# Altium footprint library mrsl.PcbLib: 218 footprints (part 12 of 14)
Each footprint in its own frame and in the unit in brackets; x right, y up, seen from the top. Pads: shape width x height; smd on the part's side, far side on the other; paste and mask are expansions set on the pad; w line width, h text height; cw(c..) or ccw(c..) is an arc to the next point about the centre after c.
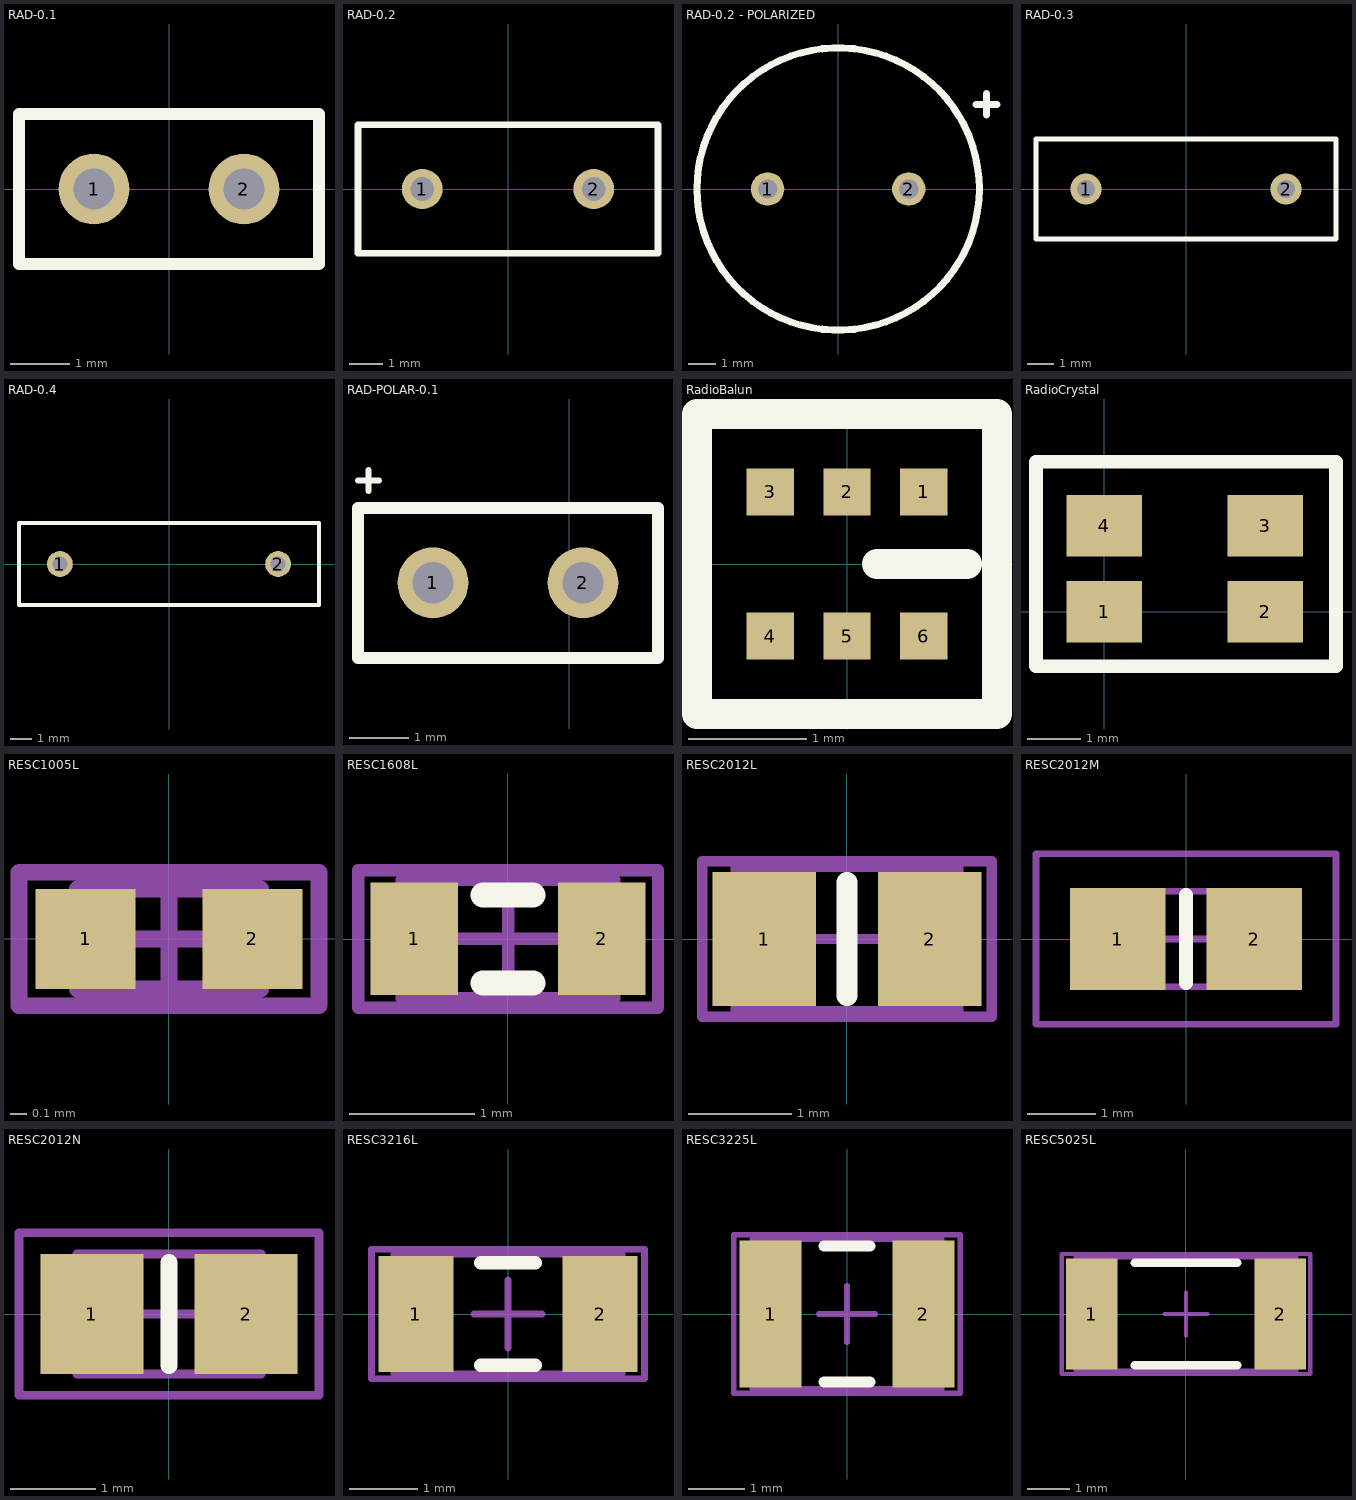
[diagram p11: the footprints below, top view; thin cyan lines are the x and y axes]

## RAD-0.1 [mm] "Radial Cap, Thru-Hole; 2 Leads; 0.1 in Pin Spacing"
pads (2):
  round 1.2 hole 0.7: 1(-1.27,0) 2(1.27,0)
Top Overlay:
  lines w0.2: -2.54,-1.27 2.54,-1.27 2.54,1.27 -2.54,1.27 -2.54,-1.27

## RAD-0.2 [mm] "Radial Cap, Thru-Hole; 2 Leads; 0.2 in Pin Spacing"
pads (2):
  round 1.2 hole 0.7: 1(-2.54,0) 2(2.54,0)
Top Overlay:
  lines w0.2: -4.445,-1.905 4.445,-1.905 4.445,1.905 -4.445,1.905 -4.445,-1.905

## RAD-0.2 - POLARIZED [mm] "Polarized Radial Cap, Thru-Hole; 2 Leads; 0.2 in Pin Spacing."
pads (2):
  round 1.2 hole 0.7: 1(-2.54,0) 2(2.54,0)
Top Overlay:
  circle w0.254: c0,0 r5.08
  lines w0.254: 4.953,3.048 5.715,3.048 ; 5.334,2.667 5.334,3.429
3D body: height 13.46, standoff 0, extent -5.073,-5.078 5.08,5.078

## RAD-0.3 [mm] "Radial Cap, Thru-Hole; 2 Leads; 0.3 in Pin Spacing"
height 6
pads (2):
  round 1.2 hole 0.7: 1(-3.81,0) 2(3.81,0)
Top Overlay:
  lines w0.2: -5.715,-1.905 5.715,-1.905 5.715,1.905 -5.715,1.905 -5.715,-1.905

## RAD-0.4 [mm] "Radial Cap, Thru-Hole; 2 Leads; 0.4 in Pin Spacing"
pads (2):
  round 1.2 hole 0.7: 1(-5.08,0) 2(5.08,0)
Top Overlay:
  lines w0.2: -6.985,-1.905 6.985,-1.905 6.985,1.905 -6.985,1.905 -6.985,-1.905

## RAD-POLAR-0.1 [mm] "Radial capacitor with leads 2.54 mm apart. Polarized"
pads (2):
  round 1.2 hole 0.7: 1(-2.311,3.708) 2(0.229,3.708)
Top Overlay:
  lines w0.1: -3.581,5.439 -3.226,5.439 ; -3.404,5.261 -3.404,5.617
  lines w0.2: -3.581,2.438 -3.581,4.978 1.499,4.978 1.499,2.438 -3.581,2.438

## RadioBalun [mm] "Radio Balun footprint"
pads (6):
  rect 0.4x0.4 smd: 1(0.65,0.61) 2(0,0.61) 3(-0.65,0.61) 4(-0.65,-0.61) 5(0,-0.61) 6(0.65,-0.61)
Top Overlay:
  lines w0.254: 0.254,0 1.016,0 ; -1.27,-1.27 1.27,-1.27 1.27,1.27 -1.27,1.27 -1.27,-1.27

## RadioCrystal [mm] "Crystal for radio"
pads (4):
  rect 1.4x1.15 smd: 1(0,0) 2(3,0) 3(3,1.6) 4(0,1.6)
Top Overlay:
  lines w0.254: -1.27,-1.016 4.318,-1.016 4.318,2.794 -1.27,2.794 -1.27,-1.016

## RESC1005L [mm] "Chip Resistor, Body 1.1x0.5mm, IPC High Density"
height 2.54
pads (2):
  rect 0.6x0.6 smd: 1(-0.5,0) 2(0.5,0)
Mechanical 13:
  lines w0.1: -0.55,-0.3 0.55,-0.3 0.55,0.3 -0.55,0.3 -0.55,-0.3
Mechanical 15:
  lines w0.1: -0.3,0 0.3,0 ; 0,-0.3 0,0.3 ; -0.9,-0.4 0.9,-0.4 0.9,0.4 -0.9,0.4 -0.9,-0.4
3D body: height 2.54, standoff 0, extent -0.55,-0.3 0.55,0.3

## RESC1608L [mm] "Chip Resistor, Body 1.6x0.8mm, IPC High Density"
height 0.9
pads (2):
  rect 0.7x0.9 smd: 1(-0.75,0) 2(0.75,0)
Top Overlay:
  lines w0.2: -0.2,-0.35 0.2,-0.35 ; -0.2,0.35 0.2,0.35
Mechanical 13:
  lines w0.1: -0.85,-0.475 0.85,-0.475 0.85,0.475 -0.85,0.475 -0.85,-0.475
Mechanical 15:
  lines w0.1: -0.475,0 0.475,0 ; 0,-0.475 0,0.475 ; -1.2,-0.55 1.2,-0.55 1.2,0.55 -1.2,0.55 -1.2,-0.55
3D body: height 0.9, standoff 0, extent -0.85,-0.475 0.85,0.475

## RESC2012L [mm] "Chip Resistor, Body 2.0x1.3mm, IPC High Density"
height 2.54
pads (2):
  rect 1x1.3 smd: 1(-0.8,0) 2(0.8,0)
Top Overlay:
  lines w0.2: 0,-0.55 0,0.55
Mechanical 13:
  lines w0.1: -1.075,-0.7 -1.075,0.7 1.075,0.7 1.075,-0.7 -1.075,-0.7
Mechanical 15:
  lines w0.1: -0.5,0 0.5,0 ; 0,-0.5 0,0.5 ; -1.4,-0.75 -1.4,0.75 1.4,0.75 1.4,-0.75 -1.4,-0.75
3D body: height 2.54, standoff 0, extent -1.075,-0.7 1.075,0.7

## RESC2012M [mm] "Chip Resistor, Body 2.0x1.2mm, IPC Low Density"
height 0.7
pads (2):
  rect 1.4x1.5 smd: 1(-1,0) 2(1,0)
Top Overlay:
  lines w0.2: 0,-0.65 0,0.65
Mechanical 13:
  lines w0.1: -1.075,-0.7 -1.075,0.7 1.075,0.7 1.075,-0.7 -1.075,-0.7
Mechanical 15:
  lines w0.1: -0.5,0 0.5,0 ; 0,-0.5 0,0.5 ; -2.2,-1.25 -2.2,1.25 2.2,1.25 2.2,-1.25 -2.2,-1.25
3D body: height 0.7, standoff 0, extent -1.075,-0.7 1.075,0.7

## RESC2012N [mm] "Chip Resistor, Body 2.0x1.2mm, IPC Medium Density"
height 0.7
pads (2):
  rect 1.2x1.4 smd: 1(-0.9,0) 2(0.9,0)
Top Overlay:
  lines w0.2: 0,-0.6 0,0.6
Mechanical 13:
  lines w0.1: -1.075,-0.7 1.075,-0.7 1.075,0.7 -1.075,0.7 -1.075,-0.7
Mechanical 15:
  lines w0.1: -0.5,0 0.5,0 ; 0,-0.5 0,0.5 ; -1.75,-0.95 1.75,-0.95 1.75,0.95 -1.75,0.95 -1.75,-0.95
3D body: height 0.7, standoff 0, extent -1.075,-0.7 1.075,0.7

## RESC3216L [mm] "Chip Resistor, Body 3.1x1.6mm, IPC High Density"
height 2.54
pads (2):
  rect 1.1x1.7 smd: 1(-1.35,0) 2(1.35,0)
Top Overlay:
  lines w0.2: -0.4,-0.75 0.4,-0.75 ; -0.4,0.75 0.4,0.75
Mechanical 13:
  lines w0.1: -1.675,-0.875 1.675,-0.875 1.675,0.875 -1.675,0.875 -1.675,-0.875
Mechanical 15:
  lines w0.1: -0.5,0 0.5,0 ; 0,-0.5 0,0.5 ; -2,-0.95 2,-0.95 2,0.95 -2,0.95 -2,-0.95
3D body: height 2.54, standoff 0, extent -1.675,-0.875 1.675,0.875

## RESC3225L [mm] "Chip Resistor, Body 3.2x2.5mm, IPC High Density"
height 0.9
pads (2):
  rect 1.1x2.6 smd: 1(-1.35,0) 2(1.35,0)
Top Overlay:
  lines w0.2: -0.4,-1.2 0.4,-1.2 ; -0.4,1.2 0.4,1.2
Mechanical 13:
  lines w0.1: -1.675,-1.32 1.675,-1.32 1.675,1.32 -1.675,1.32 -1.675,-1.32
Mechanical 15:
  lines w0.1: -0.5,0 0.5,0 ; 0,-0.5 0,0.5 ; -2,-1.4 2,-1.4 2,1.4 -2,1.4 -2,-1.4
3D body: height 0.9, standoff 0, extent -1.675,-1.32 1.675,1.32

## RESC5025L [mm] "Chip Resistor, Body 5.0x2.5mm, IPC High Density"
height 0.9
pads (2):
  rect 1.2x2.6 smd: 1(-2.2,0) 2(2.2,0)
Top Overlay:
  lines w0.2: -1.2,-1.2 1.2,-1.2 ; -1.2,1.2 1.2,1.2
Mechanical 13:
  lines w0.1: -2.575,-1.325 2.575,-1.325 2.575,1.325 -2.575,1.325 -2.575,-1.325
Mechanical 15:
  lines w0.1: -0.5,0 0.5,0 ; 0,-0.5 0,0.5 ; -2.9,-1.4 2.9,-1.4 2.9,1.4 -2.9,1.4 -2.9,-1.4
3D body: height 0.9, standoff 0, extent -2.575,-1.325 2.575,1.325